# Altium schematic symbol library ESP32_CAN_V2.SchLib: 32 symbols
Pins are listed as number, name and electrical type; pins without a type are passive.

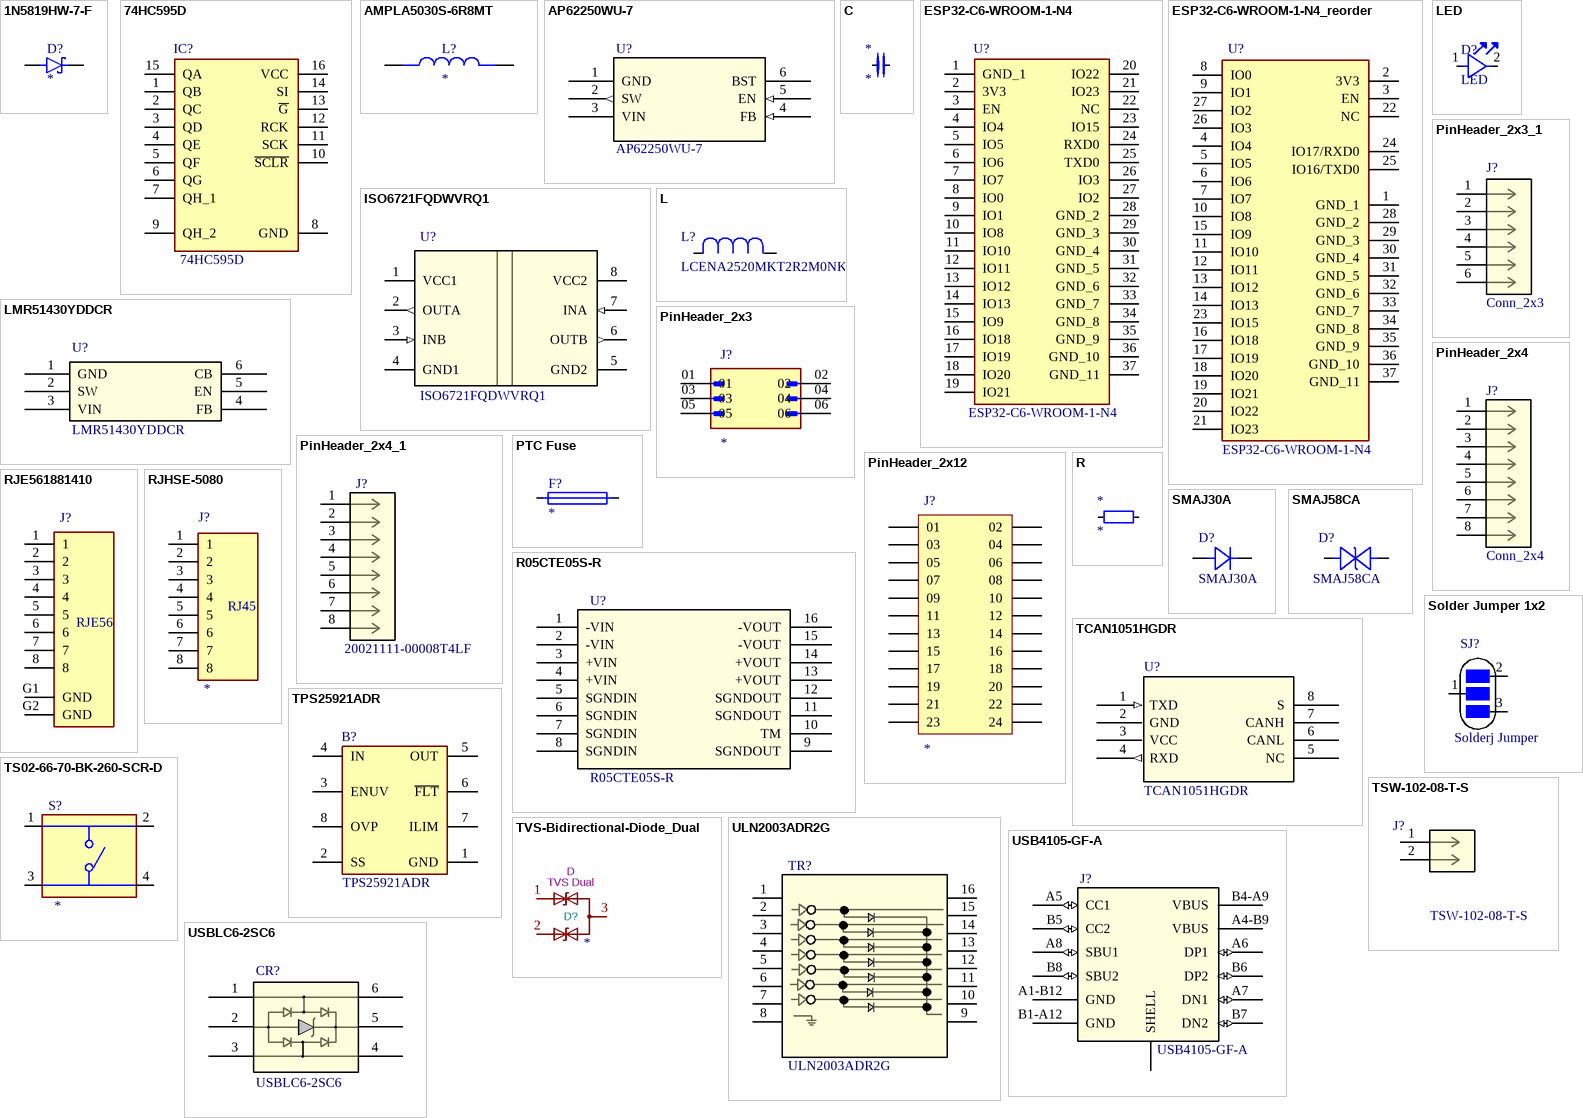
[diagram p0: symbols 1N5819HW-7-F to USBLC6-2SC6]

## 1N5819HW-7-F
designator D?
Diode Schottky 40 V 1A Surface Mount SOD-123; MF: Diodes Inc.; MP: 1N5819HW-7-F; Value: *; SnapEDA_Link: https://www.snapeda.com/parts/1N5819HW-7-F/Diodes+Inc./view-part/?ref=snap; Purchase-URL: https://pricing.snapeda.com/search/part/1N5819HW-7-F/?ref=eda; Availability: In Stock; Price: None; Package: SOD-123 Fairchild Semiconductor; Check_prices: https://www.snapeda.com/parts/1N5819HW-7-F/Diodes+Inc./view-part/?ref=eda
footprint SOD3715X145N
pins: A, C K

## 74HC595D
designator IC?
Shift Register Single 8-Bit Serial to Serial/Parallel 16-Pin SOIC T/R; Manufacturer_Name: Toshiba; Geometry.Height: 1.75mm; Mouser Part Number: 757-74HC595D; Mouser Price/Stock: https://www.mouser.co.uk/ProductDetail/Toshiba/74HC595D?qs=7EBvPakHacViJoQmXKcnew%3D%3D; Manufacturer_Part_Number: 74HC595D; Datasheet Link: https://toshiba.semicon-storage.com/info/docget.jsp?did=36768&prodName=74HC595D
footprint SOIC127P600X175-16N
pins: 1 QB, 2 QC, 3 QD, 4 QE, 5 QF, 6 QG, 7 QH_1, 8 GND, 9 QH_2, 10 ~{SCLR}, 11 SCK, 12 RCK, 13 ~{G}, 14 SI, 15 QA, 16 VCC

## AMPLA5030S-6R8MT
designator L?
Inductor Power Shielded/Molded Wirewound 6.8uH 20% 100KHz Carbonyl Powder 4A 0.0762Ohm DCR 2220 T/R; MF: Abracon LLC; MP: AMPLA5030S-6R8MT; Package: Package; Price: None; Value: *; SnapEDA_Link: https://www.snapeda.com/parts/AMPLA5030S-6R8MT/Abracon+LLC/view-part/?ref=snap; Availability: Unavailable; Check_prices: https://www.snapeda.com/parts/AMPLA5030S-6R8MT/Abracon+LLC/view-part/?ref=eda
footprint IND_AMPLA5030S-6R8MT
pins: 1, 2

## AP62250WU-7
designator U?
No Description Available; Manufacturer_Name: Diodes Inc; Copyright: Copyright (C) 2026 Ultra Librarian. All rights reserved.; Manufacturer_Part_Number: AP62250WU-7; RefDes: RefDes; Type: Type
footprint TSOT26STANDARD_DIO
pins: 1 GND (power), 2 SW (out), 3 VIN (power), 4 FB (in), 5 EN (in), 6 BST (power)

## C
designator *
pins: 1, 2

## ESP32-C6-WROOM-1-N4
designator U?
802.15.4, Bluetooth, WiFi Bluetooth v5.0, Zigbee Transceiver Module 2.4GHz PCB Trace Surface Mount; Manufacturer_Name: Espressif Systems; Geometry.Height: 3.25mm; Mouser Part Number: 356-ESP32C6WROOM1N4; Mouser Price/Stock: https://www.mouser.co.uk/ProductDetail/Espressif-Systems/ESP32-C6-WROOM-1-N4?qs=8Wlm6%252BaMh8R1JRAtXlt87w%3D%3D; Manufacturer_Part_Number: ESP32-C6-WROOM-1-N4; Datasheet Link: https://www.espressif.com/sites/default/files/documentation/esp32-c6-wroom-1_wroom-1u_datasheet_en.pdf
footprint ESP32C6WROOM1N4
pins: 1 GND_1, 2 3V3, 3 EN, 4 IO4, 5 IO5, 6 IO6, 7 IO7, 8 IO0, 9 IO1, 10 IO8, 11 IO10, 12 IO11, 13 IO12, 14 IO13, 15 IO9, 16 IO18, 17 IO19, 18 IO20, 19 IO21, 20 IO22, 21 IO23, 22 NC, 23 IO15, 24 RXD0, 25 TXD0, 26 IO3, 27 IO2, 28 GND_2, 29 GND_3, 30 GND_4, 31 GND_5, 32 GND_6, 33 GND_7, 34 GND_8, 35 GND_9, 36 GND_10, 37 GND_11

## ESP32-C6-WROOM-1-N4_reorder
designator U?, comment ESP32-C6-WROOM-1-N4
802.15.4, Bluetooth, WiFi Bluetooth v5.0, Zigbee Transceiver Module 2.4GHz PCB Trace Surface Mount; Manufacturer_Name: Espressif Systems; Geometry.Height: 3.25mm; Mouser Part Number: 356-ESP32C6WROOM1N4; Mouser Price/Stock: https://www.mouser.co.uk/ProductDetail/Espressif-Systems/ESP32-C6-WROOM-1-N4?qs=8Wlm6%252BaMh8R1JRAtXlt87w%3D%3D; Manufacturer_Part_Number: ESP32-C6-WROOM-1-N4; Datasheet Link: https://www.espressif.com/sites/default/files/documentation/esp32-c6-wroom-1_wroom-1u_datasheet_en.pdf
footprint ESP32C6WROOM1N4
pins: 1 GND_1, 2 3V3, 3 EN, 4 IO4, 5 IO5, 6 IO6, 7 IO7, 8 IO0, 9 IO1, 10 IO8, 11 IO10, 12 IO11, 13 IO12, 14 IO13, 15 IO9, 16 IO18, 17 IO19, 18 IO20, 19 IO21, 20 IO22, 21 IO23, 22 NC, 23 IO15, 24 IO17/RXD0, 25 IO16/TXD0, 26 IO3, 27 IO2, 28 GND_2, 29 GND_3, 30 GND_4, 31 GND_5, 32 GND_6, 33 GND_7, 34 GND_8, 35 GND_9, 36 GND_10, 37 GND_11

## ISO6721FQDWVRQ1
designator U?
Automotive, general-purpose, dual-channel, 1/1 digital isolator 8-SOIC -40 to 125; Manufacturer_Name: Texas Instruments; TYPE: TYPE; RefDes: RefDes; Copyright: Copyright (C) 2026 Ultra Librarian. All rights reserved.; Manufacturer_Part_Number: ISO6721FQDWVRQ1; Datasheet: https://www.ti.com/lit/gpn/iso6721-q1
footprint DWV0008A-IPC_A
pins: 1 VCC1 (power), 2 OUTA (out), 3 INB (in), 4 GND1 (power), 5 GND2 (power), 6 OUTB (out), 7 INA (in), 8 VCC2 (power)

## L
designator L?, comment LCENA2520MKT2R2M0NK
No Description Available; Manufacturer_Name: TAIYO YUDEN; Copyright: Copyright (C) 2026 Ultra Librarian. All rights reserved.; Manufacturer_Part_Number: LCENA2520MKT2R2M0NK
footprint IND_LCEN_2520MK_TAY
pins: 1, 2

## LED
designator D?
pins: 1, 2

## LMR51430YDDCR
designator U?
SIMPLE SWITCHER&reg; 4.5-V to 36-V, 3-A synchronous buck converter with 40-&micro;A IQ 6-SOT-23-THIN -40 to 150; Manufacturer_Name: Texas Instruments; Copyright: Copyright (C) 2025 Ultra Librarian. All rights reserved.; Manufacturer_Part_Number: LMR51430YDDCR; RefDes: RefDes; Type: Type
footprint SOT-23-THIN-6_DDC_TEX
pins: 1 GND (power), 2 SW (power), 3 VIN (power), 4 FB, 5 EN, 6 CB (power)

## PinHeader_2x3
designator J?
MF: {'manufacturer': u'Amphenol ICC (FCI)'}; MP: 10129381-906003BLF; Package: None; Price: None; Value: *; Availability: Unavailable
footprint AMPHENOL_10129381-906003BLF
pins: 01, 02, 03, 04, 05, 06

## PinHeader_2x3_1
designator J?, comment Conn_2x3
Manufacturer_Name: Amphenol ICC; Manufacturer_Part_Number: 10129381-908002BLF; Copyright: Copyright (C) 2026 Ultra Librarian. All rights reserved.; RefDes: RefDes; Type: Type
footprint CONN_10129381-X08002XLF_AMP
pins: 1, 2, 3, 4, 5, 6

## PinHeader_2x4
designator J?, comment Conn_2x4
Manufacturer_Name: Amphenol ICC; Manufacturer_Part_Number: 10129381-908002BLF; Copyright: Copyright (C) 2026 Ultra Librarian. All rights reserved.; RefDes: RefDes; Type: Type
footprint CONN_10129381-X08002XLF_AMP
pins: 1, 2, 3, 4, 5, 6, 7, 8

## PinHeader_2x4_1
designator J?, comment 20021111-00008T4LF
No Description Available; Manufacturer_Name: Amphenol ICC; Copyright: Copyright (C) 2026 Ultra Librarian. All rights reserved.; Manufacturer_Part_Number: 20021111-00008T4LF; RefDes: RefDes; Type: Type
footprint CONN_20021111-00008T4LF_AMP
pins: 1, 2, 3, 4, 5, 6, 7, 8

## PinHeader_2x12
designator J?
MF: {'manufacturer': u'Amphenol ICC (FCI)'}; MP: 10129381-924003BLF; Package: None; Price: None; Value: *; Availability: Unavailable
footprint AMPHENOL_10129381-924003BLF
pins: 01, 02, 03, 04, 05, 06, 07, 08, 09, 10, 11, 12, 13, 14, 15, 16, 17, 18, 19, 20, 21, 22, 23, 24

## PTC Fuse
designator F?
PTSAHT1206
pins: 1, 2

## R
designator *
pins: 1 0, 2 1

## R05CTE05S-R
designator U?
DC/DC converter; Manufacturer_Name: Recom Power; Copyright: Copyright (C) 2026 Ultra Librarian. All rights reserved.; Manufacturer_Part_Number: R05CTE05S-R; RefDes: RefDes; Type: Type
footprint SMD_16_10.35X7.5X2.5_RCP
pins: 1 -VIN (power), 2 -VIN (power), 3 +VIN (power), 4 +VIN (power), 5 SGNDIN (power), 6 SGNDIN (power), 7 SGNDIN (power), 8 SGNDIN (power), 9 SGNDOUT (power), 10 TM, 11 SGNDOUT (power), 12 SGNDOUT (power), 13 +VOUT (power), 14 +VOUT (power), 15 -VOUT (power), 16 -VOUT (power)

## RJE561881410
designator J?, comment RJE56
Modular Jack - Right Angle, Input Output Connectors 8P8C, Without Shield .; MF: Amphenol Commercial Products; MP: RJE561881410; Reference: RJE56-188-1410; SnapEDA_Link: https://www.snapeda.com/parts/RJE561881410/Amphenol/view-part/?ref=snap; Package: None; Value: *; Check_prices: https://www.snapeda.com/parts/RJE561881410/Amphenol/view-part/?ref=eda; Type: RJE56; Supplier: Farnell
footprint AMPHENOL_RJE561881410
pins: 1, 2, 3, 4, 5, 6, 7, 8, G1 GND, G2 GND

## RJHSE-5080
designator J?
MF: Amphenol ICC; Package: None; Price: None; Value: *; MP: RJHSE-5080; Availability: Unavailable
footprint AMPHENOL_RJHSE-5080
pins: 1, 2, 3, 4, 5, 6, 7, 8
text: RJ45

## SMAJ30A
designator D?
No Description Available; Manufacturer_Name: Littelfuse Inc; Copyright: Copyright (C) 2026 Ultra Librarian. All rights reserved.; Manufacturer_Part_Number: SMAJ30A
footprint SMASeries_LTF
pins: 1, 2

## SMAJ58CA
designator D?
No Description Available; Manufacturer_Name: Littelfuse Inc; Copyright: Copyright (C) 2026 Ultra Librarian. All rights reserved.; Manufacturer_Part_Number: SMAJ58CA
footprint SMASeries_LTF
pins: 1, 2

## Solder Jumper 1x2
designator SJ?, comment Solderj Jumper
footprint SolderJumper 1x2
pins: 1, 2, 3

## TCAN1051HGDR
designator U?
Fault Protected CAN Transceiver With Flexible Data-Rate 8-SOIC -55 to 125; Manufacturer_Name: Texas Instruments; Copyright: Copyright (C) 2026 Ultra Librarian. All rights reserved.; Manufacturer_Part_Number: TCAN1051HGDR; Datasheet: https://www.ti.com/lit/gpn/tcan1051hg; RefDes: RefDes; Type: Type
footprint D8_TEX
pins: 1 TXD (in), 2 GND (power), 3 VCC (power), 4 RXD (out), 5 NC, 6 CANL, 7 CANH, 8 S

## TPS25921ADR
designator B?
18V, 1.6A, 90m eFuse with Adjustable +/-2% Accurate Current Limit; Manufacturer_Name: Texas Instruments; Geometry.Height: 1.75mm; Mouser Part Number: 595-TPS25921ADR; Mouser Price/Stock: https://www.mouser.co.uk/ProductDetail/Texas-Instruments/TPS25921ADR?qs=m%2F7bTylgptfvwfVPRm0ALQ%3D%3D; Manufacturer_Part_Number: TPS25921ADR; Datasheet Link: http://www.ti.com/lit/gpn/tps25921a
footprint SOIC127P600X175-8N
pins: 1 GND, 2 SS, 3 ENUV, 4 IN, 5 OUT, 6 ~{FLT}, 7 ILIM, 8 OVP

## TS02-66-70-BK-260-SCR-D
designator S?
6 x 6 mm, 7 mm Actuator Height, 260 gf, Black, Short Crimped, Through Hole, SPST, Tactile Switch; MF: Same Sky; MP: TS02-66-70-BK-260-SCR-D; SnapEDA_Link: https://www.snapeda.com/parts/TS02-66-70-BK-260-SCR-D/Same+Sky/view-part/?ref=snap; Package: None; Value: *; Check_prices: https://www.snapeda.com/parts/TS02-66-70-BK-260-SCR-D/Same+Sky/view-part/?ref=eda
footprint SW_TS02-66-70-BK-260-SCR-D
pins: 1, 2, 3, 4

## TSW-102-08-T-S
designator J?
No Description Available; Manufacturer_Name: Samtec Inc; Copyright: Copyright (C) 2026 Ultra Librarian. All rights reserved.; Manufacturer_Part_Number: TSW-102-08-T-S; RefDes: RefDes; Type: Type
footprint CON2_1X2_TU_TSW
pins: 1, 2

## TVS-Bidirectional-Diode_Dual
designator D?  value TVS Dual  Reference: D
ki_keywords: TVS Dual Diode; ki_description: TVS Dual Diode
footprint SOT-23 (SOT23, 3-Leads, IPC Medium Density, TO-236)
pins: 1, 2, 3

## ULN2003ADR2G
designator TR?
No Description Available; Manufacturer_Name: onsemi; Copyright: Copyright (C) 2026 Ultra Librarian. All rights reserved.; Manufacturer_Part_Number: ULN2003ADR2G; RefDes: RefDes; Type: Type
footprint ULN2003ADR2G_OSI
pins: 1, 2, 3, 4, 5, 6, 7, 8, 9, 10, 11, 12, 13, 14, 15, 16

## USB4105-GF-A
designator J?
Description; Manufacturer_Name: Global Connector Technology; Copyright: Copyright (C) 2025 Ultra Librarian. All rights reserved.; Manufacturer_Part_Number: USB4105-GF-A; RefDes: RefDes; Type: Type
footprint USB4105_GCT
pins: A1-B12 GND (power), A4-B9 VBUS (power), A5 CC1 (io), A6 DP1 (io), A7 DN1 (io), A8 SBU1 (io), B1-A12 GND (power), B4-A9 VBUS (power), B5 CC2 (io), B6 DP2 (io), B7 DN2 (io), B8 SBU2 (io), SHELL

## USBLC6-2SC6
designator CR?
ESD Protection for USB 2.0 High Speed; Manufacturer_Name: STMicroelectronics; Copyright: Copyright (C) 2025 Ultra Librarian. All rights reserved.; Manufacturer_Part_Number: USBLC6-2SC6; RefDes: RefDes; Type: Type
footprint SOT23-6L_STM
pins: 1, 2, 3, 4, 5, 6